# Altium schematic symbol library TP.Schlib: 1 symbol
Pins are listed as number, name and electrical type; pins without a type are passive.

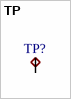
[diagram p0: symbol TP]

## TP
designator TP?, comment Test Point  (value not drawn)  (no BOM)
pins: 1
1 alternate drawing of the same symbol